# EAGLE library part 2MM_JST_7 (library JST)
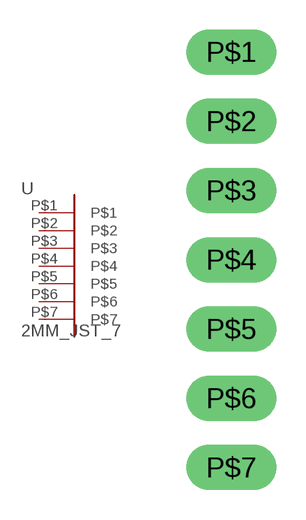
[diagram p0: symbol with the pads of 2MM_JST_7; footprint 2MM_JST_7]

Designator prefix -

## 2MM_JST_7  [2MM_JST_7]
P$1  P$1
P$2  P$2
P$3  P$3
P$4  P$4
P$5  P$5
P$6  P$6
P$7  P$7

## Footprint 2MM_JST_7 (pad centres in mm)
drill 0.8 long: P$1 0,0; P$2 0,-2; P$3 0,-4; P$4 0,-6; P$5 0,-8; P$6 0,-10; P$7 0,-12